# EAGLE library part ADG408 (library 1)
ADG408 8x Multiplexer
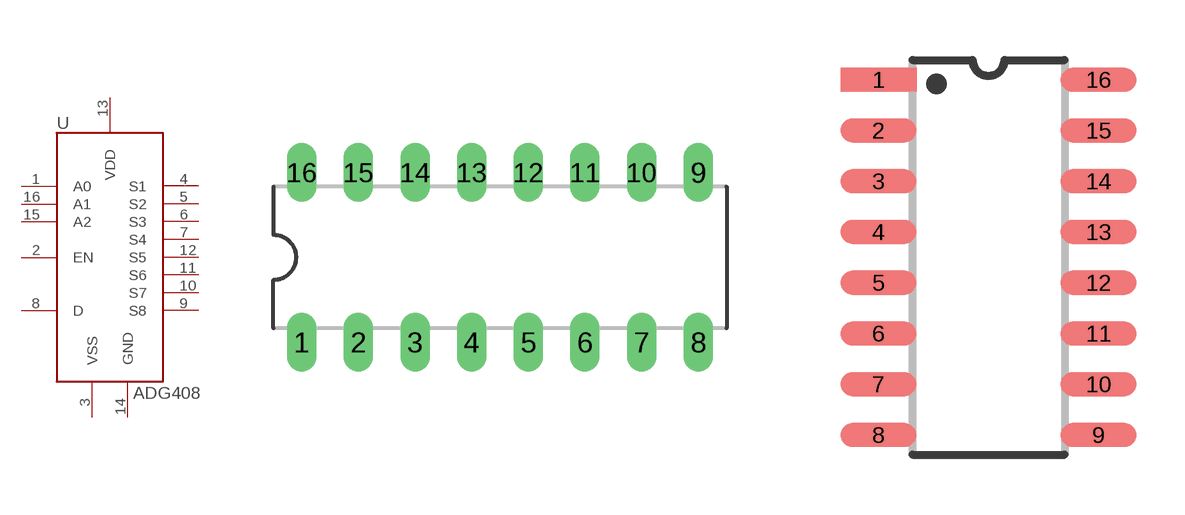
[diagram p47: symbol with the pads of DIL16; footprints DIL16, SOIC-16]

Designator prefix U

## ADG408BN  [DIL16]
1  A0
2  EN
3  VSS
4  S1
5  S2
6  S3
7  S4
8  D
9  S8
10  S7
11  S6
12  S5
13  VDD
14  GND
15  A2
16  A1

## ADG408BR  [SOIC-16]
Pads as for DIL16

## Footprint DIL16 (pad centres in mm)
Dual In Line Package
drill 0.813 long: 1 -8.89,-3.81; 2 -6.35,-3.81; 3 -3.81,-3.81; 4 -1.27,-3.81; 5 1.27,-3.81; 6 3.81,-3.81; 7 6.35,-3.81; 8 8.89,-3.81; 9 8.89,3.81; 10 6.35,3.81; 11 3.81,3.81; 12 1.27,3.81; 13 -1.27,3.81; 14 -3.81,3.81; 15 -6.35,3.81; 16 -8.89,3.81

## Footprint SOIC-16 (pad centres in mm)
SOIC-16
smd 1.9 x 0.6: 1 -2.75,4.445; 2 -2.75,3.175; 3 -2.75,1.905; 4 -2.75,0.635; 5 -2.75,-0.635; 6 -2.75,-1.905; 7 -2.75,-3.175; 8 -2.75,-4.445; 9 2.75,-4.445; 10 2.75,-3.175; 11 2.75,-1.905; 12 2.75,-0.635; 13 2.75,0.635; 14 2.75,1.905; 15 2.75,3.175; 16 2.75,4.445